# Altium schematic symbol library USB_MICRO_MINI.Schlib: 1 symbol
Pins are listed as number, name and electrical type; pins without a type are passive.

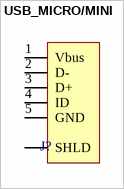
[diagram p0: symbol USB_MICRO/MINI]

## USB_MICRO/MINI
designator J?  (value not drawn)
pins: 1 Vbus, 2 D-, 3 D+, 4 ID, 5 GND, S SHLD